# Altium schematic symbol library SCH - INTERFACE - CAN - NXP TJA1051T.Schlib: 1 symbol
Pins are listed as number, name and electrical type; pins without a type are passive.

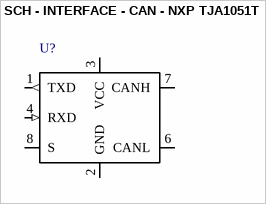
[diagram p0: symbol SCH - INTERFACE - CAN - NXP TJA1051T]

## SCH - INTERFACE - CAN - NXP TJA1051T
designator U?
footprint SOT96-1
pins: 1 TXD (out), 2 GND (power), 3 VCC (power), 4 RXD (in), 6 CANL (io), 7 CANH (io), 8 S (power)